# EAGLE library part POKEY (library atari)
POKEY
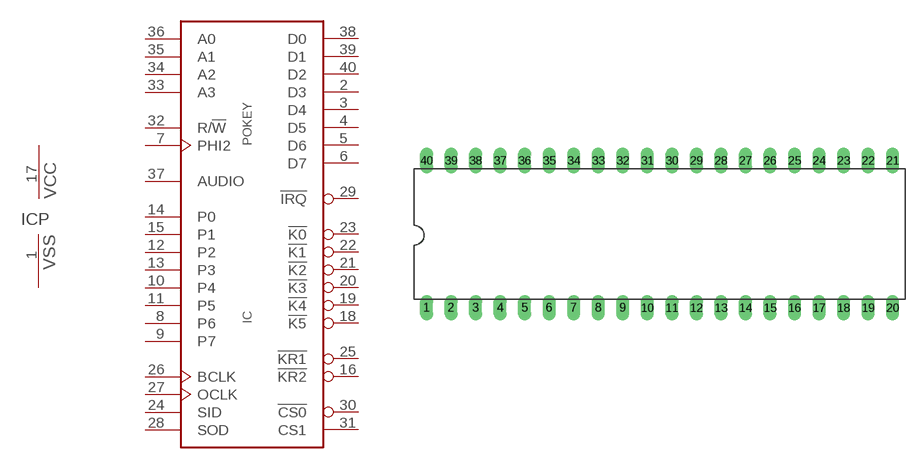
[diagram p12: symbol with the pads of DIL40; footprint DIL40]

Designator prefix IC; gates P=VCCVSS =POKEY

## POKEY  [DIL40]
1  P:VSS  pwr
2  :D3  out
3  :D4  out
4  :D5  out
5  :D6  out
6  :D7  out
7  :PHI2  in
8  :P6  in
9  :P7  in
10  :P4  in
11  :P5  in
12  :P2  in
13  :P3  in
14  :P0  in
15  :P1  in
16  :!KR2  in
17  P:VCC  pwr
18  :!K5  out
19  :!K4  out
20  :!K3  out
21  :!K2  out
22  :!K1  out
23  :!K0  out
24  :SID  in
25  :!KR1  in
26  :BCLK
27  :OCLK  out
28  :SOD  out
29  :!IRQ  out
30  :!CS0  in
31  :CS1  in
32  :R/!W  in
33  :A3  in
34  :A2  in
35  :A1  in
36  :A0  in
37  :AUDIO  out
38  :D0  out
39  :D1  out
40  :D2  out

## Footprint DIL40 (pad centres in mm)
drill 0.813 long: 1 -24.13,-7.62; 2 -21.59,-7.62; 3 -19.05,-7.62; 4 -16.51,-7.62; 5 -13.97,-7.62; 6 -11.43,-7.62; 7 -8.89,-7.62; 8 -6.35,-7.62; 9 -3.81,-7.62; 10 -1.27,-7.62; 11 1.27,-7.62; 12 3.81,-7.62; 13 6.35,-7.62; 14 8.89,-7.62; 15 11.43,-7.62; 16 13.97,-7.62; 17 16.51,-7.62; 18 19.05,-7.62; 19 21.59,-7.62; 20 24.13,-7.62; 21 24.13,7.62; 22 21.59,7.62; 23 19.05,7.62; 24 16.51,7.62; 25 13.97,7.62; 26 11.43,7.62; 27 8.89,7.62; 28 6.35,7.62; 29 3.81,7.62; 30 1.27,7.62; 31 -1.27,7.62; 32 -3.81,7.62; 33 -6.35,7.62; 34 -8.89,7.62; 35 -11.43,7.62; 36 -13.97,7.62; 37 -16.51,7.62; 38 -19.05,7.62; 39 -21.59,7.62; 40 -24.13,7.62